# Altium footprint library miniESP.PcbLib: 11 footprints
Each footprint in its own frame and in the unit in brackets; x right, y up, seen from the top. Pads: shape width x height; smd on the part's side, far side on the other; paste and mask are expansions set on the pad; w line width, h text height; cw(c..) or ccw(c..) is an arc to the next point about the centre after c.
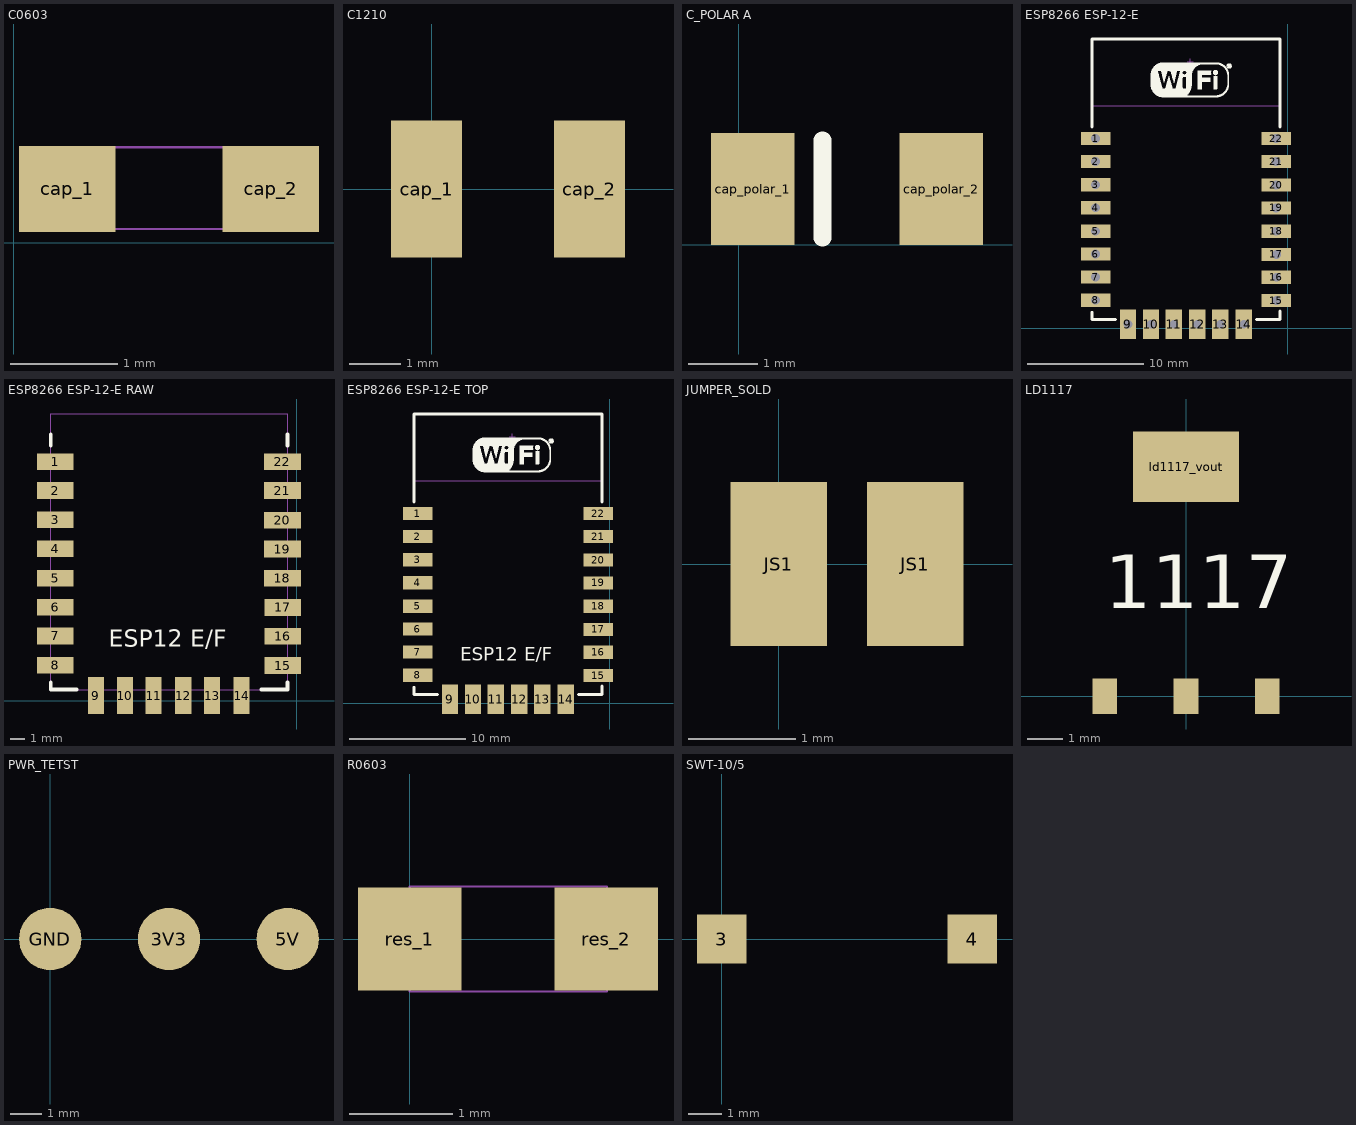
[diagram p0: the footprints below, top view; thin cyan lines are the x and y axes]

## C0603 [mm]
pads (2):
  rect 0.9x0.8 smd: cap_1(0.5,0.5) cap_2(2.4,0.5)
Mechanical 1:
  lines w0.02: 0.508,0.127 0.508,0.889 2.413,0.889 2.413,0.127 0.508,0.127

## C1210 [mm]
pads (2):
  rect 1.4x2.7 smd: cap_1(-0.1,0) cap_2(3.1,0)
3D body: height 2, standoff 0, extent 0.508,-1.397 2.54,1.397

## C_POLAR A [mm]
height 1
pads (2):
  rect 1.2x1.6 smd: cap_polar_1(0.2,0.8) cap_polar_2(2.9,0.8)
Top Overlay:
  lines w0.254: 1.2,0.1 1.2,1.5
3D body: height 3, standoff 0, extent 0,0 3.1,1.6

## ESP8266 ESP-12-E [mil] "ESP8266 ESP-12-E"
pads (22):
  rect 100x45 hole 30: 1(-653,646) 2(-653,568) 3(-653,489) 4(-653,411) 5(-653,331) 6(-653,253) 7(-653,175) 8(-653,96) 15(-38,95) 16(-38,174) 17(-38,252) 18(-39,331) 19(-39,410) 20(-39,488) 21(-39,568) 22(-39,646)
  rect 55x100 hole 30: 9(-543,14) 10(-465,14) 11(-387,14) 12(-307,14) 13(-229,14) 14(-149,14)
Top Overlay:
  drawing of 1267 lines, arcs and shapes, not listed
  text ".Designator" at -679,-84 h39.37
Mechanical 13:
  lines w2: -662.96,757.97 -22.96,757.97
  text "CUTOUT POLYGON" at -652.96,940.59 h10
  text "ANTENNA AREA" at -652.96,960.59 h10
Mechanical 15:
  lines w3.94: -341,907.92 -321,907.92 ; -331,897.92 -331,917.92
3D body "User Library-ESP_12_E.STEP": height 85.7, standoff -1.17, extent -661,36.56 -31.08,981.44

## ESP8266 ESP-12-E RAW [mil] "ESP8266 ESP-12-E"
pads (22):
  rect 100x45 smd: 1(-653,646) 2(-653,568) 3(-653,489) 4(-653,411) 5(-653,331) 6(-653,253) 7(-653,175) 8(-653,96) 15(-38,95) 16(-38,174) 17(-38,252) 18(-39,331) 19(-39,410) 20(-39,488) 21(-39,568) 22(-39,646)
  rect 43.31x100 smd: 9(-543,14) 10(-465,14) 11(-387,14) 12(-307,14) 13(-229,14) 14(-149,14)
Top Overlay:
  lines w10: -665,49.21 -665,30 -595,30 ; -665,690 -665,720 ; -96,30 -25,30 -25,49 ; -25,690 -25,720
  text "ESP12 E/F" at -507.87,129.92 h78.74
Mechanical 1:
  lines w0.79: -665,30 -665,775 -25,775 -25,30 -665,30
3D body: height 118.11, standoff 0, extent -665,30 -25,775.01

## ESP8266 ESP-12-E TOP [mil] "ESP8266 ESP-12-E"
pads (22):
  rect 100x45 smd: 1(-653,646) 2(-653,568) 3(-653,489) 4(-653,411) 5(-653,331) 6(-653,253) 7(-653,175) 8(-653,96) 15(-38,95) 16(-38,174) 17(-38,252) 18(-39,331) 19(-39,410) 20(-39,488) 21(-39,568) 22(-39,646)
  rect 55x100 smd: 9(-543,14) 10(-465,14) 11(-387,14) 12(-307,14) 13(-229,14) 14(-149,14)
Top Overlay:
  drawing of 1267 lines, arcs and shapes, not listed
  text "ESP12 E/F" at -507.87,129.92 h78.74
Mechanical 13:
  lines w2: -662.96,757.97 -22.96,757.97
  text "CUTOUT POLYGON" at -652.96,940.59 h10
  text "ANTENNA AREA" at -652.96,960.59 h10
Mechanical 15:
  lines w3.94: -341,907.92 -321,907.92 ; -331,897.92 -331,917.92
3D body "User Library-ESP_12_E.STEP": height 85.7, standoff -1.17, extent -661,36.56 -31.08,981.44

## JUMPER_SOLD [mil]
pads (2):
  rect 35.43x60 smd: JS1(0,0) JS1(50,0)

## LD1117 [mm]
pads (4):
  rect 0.7x1 smd: ld1117_gnd(-2.3,0) ld1117_vin(2.3,0) ld1117_vout(0,0)
  rect 3x2 smd: ld1117_vout(0,6.5)
Top Overlay:
  text "1117" at -2.3,2.5 h1.52
3D body: height 3, standoff 0, extent -3.175,1.524 3.175,4.953

## PWR_TETST [mm]
pads (3):
  round 2 smd: 3V3(3.81,0) 5V(7.62,0) GND(0,0)

## R0603 [mm]
height 1
pads (2):
  rect 1x1 smd: res_1(0,0) res_2(1.9,0)
Mechanical 1:
  lines w0.02: 0,-0.508 0,0.508 1.905,0.508 1.905,-0.508 0,-0.508
3D body: height 1, standoff 0, extent 0,-0.508 1.905,0.508

## SWT-10/5 [mm]
height 5
pads (2):
  rect 1.5x1.5 smd: 3(0,0) 4(7.6,0)
3D body: height 7, standoff 0, extent 0.762,-1.27 6.858,1.27